# Altium schematic symbol library AD7124-4BRUZ.SchLib: 1 symbol
Pins are listed as number, name and electrical type; pins without a type are passive.

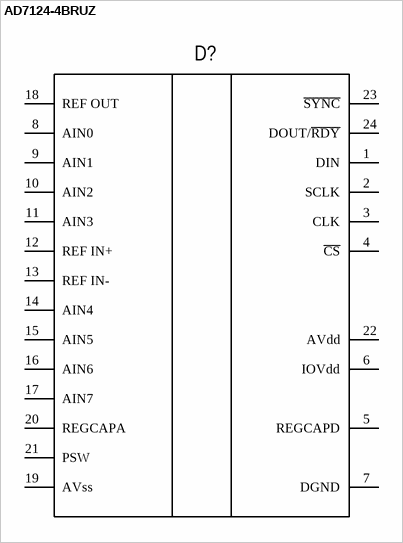
[diagram p0: symbol AD7124-4BRUZ]

## AD7124-4BRUZ
designator D?
pins: 1 DIN, 2 SCLK, 3 CLK, 4 ~{CS}, 5 REGCAPD, 6 IOVdd, 7 DGND, 8 AIN0, 9 AIN1, 10 AIN2, 11 AIN3, 12 REF IN+, 13 REF IN-, 14 AIN4, 15 AIN5, 16 AIN6, 17 AIN7, 18 REF OUT, 19 AVss, 20 REGCAPA, 21 PSW, 22 AVdd, 23 ~{SYNC}, 24 DOUT/~{RDY}